# Altium integrated library 632723100011.IntLib: 1 symbol
Pins are listed as number, name and electrical type; pins without a type are passive.

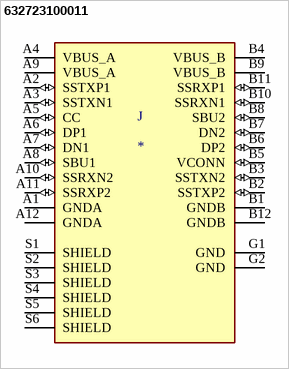
[diagram p0: symbol 632723100011]

## 632723100011
designator J
USB-C _USB TYPE-C_ USB 3.1 _USB 3.1 Gen 2, Superspeed+_ Receptacle Connector 24 Position Surface Mount, Right Angle; Through Hole; MP: 632723100011; MF: Wurth Electronics; Value: *; SnapEDA_Link: https://www.snapeda.com/parts/632723100011/Wurth%20Electronics%20Inc./view-part/448534/?ref=snap; Availability: Unavailable; Price: None; Package: None
footprint WURTH_632723100011
pins: A1 GNDA (power), A2 SSTXP1 (io), A3 SSTXN1 (io), A4 VBUS_A (power), A5 CC (io), A6 DP1 (io), A7 DN1 (io), A8 SBU1 (io), A9 VBUS_A (power), A10 SSRXN2 (io), A11 SSRXP2 (io), A12 GNDA (power), B1 GNDB (power), B2 SSTXP2 (io), B3 SSTXN2 (io), B4 VBUS_B (power), B5 VCONN (io), B6 DP2 (io), B7 DN2 (io), B8 SBU2 (io), B9 VBUS_B (power), B10 SSRXN1 (io), B11 SSRXP1 (io), B12 GNDB (power), G1 GND (power), G2 GND (power), S1 SHIELD, S2 SHIELD, S3 SHIELD, S4 SHIELD, S5 SHIELD, S6 SHIELD